# EAGLE library part TAS5760LDAPR (library TAS5760LDAPR)
Closed Loop I2S Input Amplifier with Power Limiter, PVDDmax of 16.5V Source: Datasheet <http://www.ti.com/lit/gpn/tas5760l>
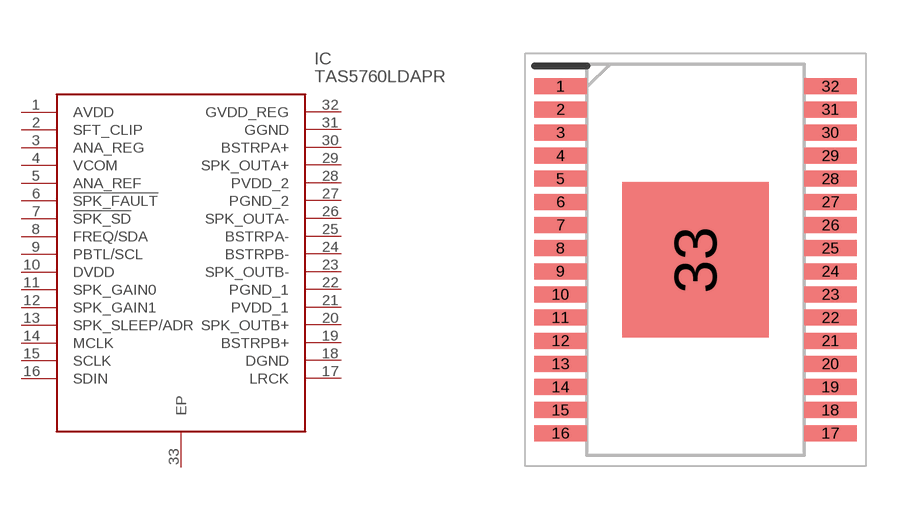
[diagram p0: symbol with the pads of SOP65P810X120-33N; footprint SOP65P810X120-33N]

Designator prefix IC

## TAS5760LDAPR (Description: Closed Loop I2S Input Amplifier with Power Limiter, PVDDmax of 16.5V; Height: 1.2mm; Manufacturer_Name: Texas Instruments; Manufacturer_Part_Number: TAS5760LDAPR; Mouser_Part_Number: 595-TAS5760LDAPR; Mouser_Price-Stock: https://www.mouser.co.uk/ProductDetail/Texas-Instruments/TAS5760LDAPR?qs=ZLZ8689ywa3IfleZRfchzQ%3D%3D)  [SOP65P810X120-33N]
1  AVDD
2  SFT_CLIP
3  ANA_REG
4  VCOM
5  ANA_REF
6  !SPK_FAULT
7  !SPK_SD
8  FREQ/SDA
9  PBTL/SCL
10  DVDD
11  SPK_GAIN0
12  SPK_GAIN1
13  SPK_SLEEP/ADR
14  MCLK
15  SCLK
16  SDIN
17  LRCK
18  DGND
19  BSTRPB+
20  SPK_OUTB+
21  PVDD_1
22  PGND_1
23  SPK_OUTB-
24  BSTRPB-
25  BSTRPA-
26  SPK_OUTA-
27  PGND_2
28  PVDD_2
29  SPK_OUTA+
30  BSTRPA+
31  GGND
32  GVDD_REG
33  EP

## Footprint SOP65P810X120-33N (pad centres in mm)
DAP (R-PDSO-G32)
smd 1.475 x 0.45: 1 -3.788,4.875; 2 -3.788,4.225; 3 -3.788,3.575; 4 -3.788,2.925; 5 -3.788,2.275; 6 -3.788,1.625; 7 -3.788,0.975; 8 -3.788,0.325; 9 -3.788,-0.325; 10 -3.788,-0.975; 11 -3.788,-1.625; 12 -3.788,-2.275; 13 -3.788,-2.925; 14 -3.788,-3.575; 15 -3.788,-4.225; 16 -3.788,-4.875; 17 3.788,-4.875; 18 3.788,-4.225; 19 3.788,-3.575; 20 3.788,-2.925; 21 3.788,-2.275; 22 3.788,-1.625; 23 3.788,-0.975; 24 3.788,-0.325; 25 3.788,0.325; 26 3.788,0.975; 27 3.788,1.625; 28 3.788,2.275; 29 3.788,2.925; 30 3.788,3.575; 31 3.788,4.225; 32 3.788,4.875
smd 4.11 x 4.36: 33 0,0